# Altium schematic symbol library 常用原件库.SchLib: 53 symbols
Pins are listed as number, name and electrical type; pins without a type are passive.

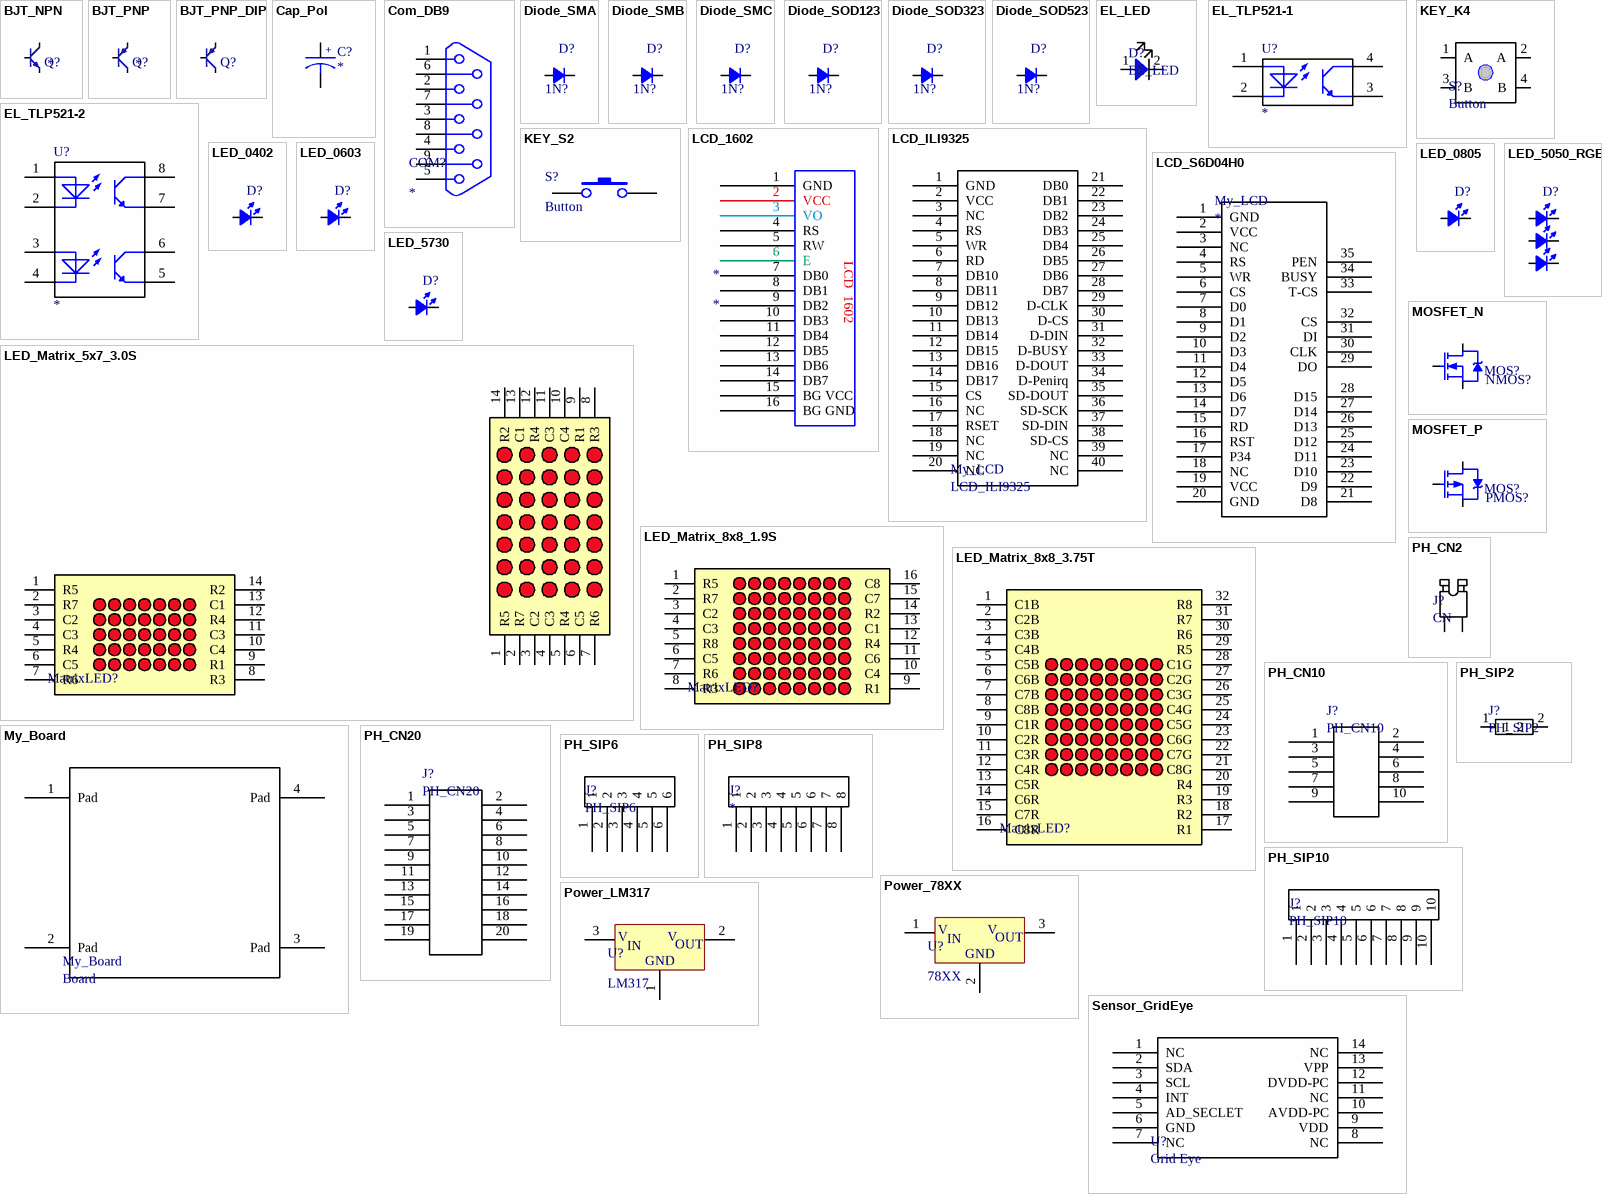
[diagram p0: symbols BJT_NPN to Sensor_GridEye]

## BJT_NPN
designator Q?  (value not drawn)
Transistor; Value: *
footprint SOT23-3
pins: 1 B, 2 E, 3 C

## BJT_PNP
designator Q?  (value not drawn)
Transistor; Value: *
footprint SOT23-3
pins: 1 B, 2 E, 3 C

## BJT_PNP_DIP
designator Q?  (value not drawn)
Transistor
footprint TO-92_HDR
pins: 1 E, 2 B, 3 C

## Cap_Pol
designator C?
Capacitor
footprint Cap_Pol_F5 (Cap F5)
footprint Cap_Pol_F6 (Cap F5)
pins: 1, 2
text: +

## Com_DB9
designator COM?
串口母头
footprint DB9
pins: 1, 2, 3, 4, 5, 6, 7, 8, 9

## Diode_SMA
designator D?  value 1N?  (hidden comment: Diode_SMA)
Diode
footprint DIODE_DO-214AC (SMA)
pins: 1 A, 2 K

## Diode_SMB
designator D?  value 1N?  (hidden comment: Diode_SMB)
Diode
footprint DIODE_DO-214AA (SMB)
pins: 1 A, 2 K

## Diode_SMC
designator D?  value 1N?  (hidden comment: Diode_SMC)
Diode
footprint DIODE_DO-214AB (SMC)
pins: 1 A, 2 K

## Diode_SOD123
designator D?  value 1N?  (hidden comment: Diode_SOD123)
Diode
pins: 1 A, 2 K

## Diode_SOD323
designator D?  value 1N?  (hidden comment: Diode_SOD323)
Diode
footprint SOD323 (SOD-323; 2 Leads; Body 1.8 x 1.35 mm, (LxW))
pins: 1 A, 2 K

## Diode_SOD523
designator D?  value 1N?  (hidden comment: Diode_SOD523)
Diode
pins: 1 A, 2 K

## EL_LED
designator D?
LED
footprint LED-F5 (LED F5 草帽灯)
pins: 1 "My Pad", 2 "My Pad"

## EL_TLP521-1
designator U?
单路光耦
footprint DIP-4N
pins: 1, 2, 3, 4

## EL_TLP521-2
designator U?
双路光耦
footprint DIP-8N
pins: 1, 2, 3, 4, 5, 6, 7, 8

## KEY_K4
designator S?, comment Button
四脚按键
footprint My_Button (My Botton 4 pins)
pins: 1 A "My Pad", 2 A "My Pad", 3 B "My Pad", 4 B "My Pad"

## KEY_S2
designator S?, comment Button
二脚按键
pins: 1, 2

## LCD_1602
designator *
footprint 1602LCD (LCD module 16*2 char)
pins: 1 GND, 2 VCC, 3 VO, 4 RS, 5 RW, 6 E, 7 DB0, 8 DB1, 9 DB2, 10 DB3, 11 DB4, 12 DB5, 13 DB6, 14 DB7, 15 BG VCC, 16 BG GND
text: LCD  1602

## LCD_ILI9325
designator My_LCD
LCD ILI9325
footprint ILI9325 (My  ILI9325 LCD module)
pins: 1 GND "My Pad", 2 VCC "My Pad", 3 NC "My Pad", 4 RS "My Pad", 5 WR "My Pad", 6 RD "My Pad", 7 DB10 "My Pad", 8 DB11 "My Pad", 9 DB12 "My Pad", 10 DB13 "My Pad", 11 DB14 "My Pad", 12 DB15 "My Pad", 13 DB16 "My Pad", 14 DB17 "My Pad", 15 CS "My Pad", 16 NC "My Pad", 17 RSET "My Pad", 18 NC "My Pad", 19 NC "My Pad", 20 NC "My Pad", 21 DB0 "My Pad", 22 DB1 "My Pad", 23 DB2 "My Pad", 24 DB3 "My Pad", 25 DB4 "My Pad", 26 DB5 "My Pad", 27 DB6 "My Pad", 28 DB7 "My Pad", 29 D-CLK "My Pad", 30 D-CS "My Pad", 31 D-DIN "My Pad", 32 D-BUSY "My Pad", 33 D-DOUT "My Pad", 34 D-Penirq "My Pad", 35 SD-DOUT "My Pad", 36 SD-SCK "My Pad", 37 SD-DIN "My Pad", 38 SD-CS "My Pad", 39 NC "My Pad", 40 NC "My Pad"

## LCD_S6D04H0
designator My_LCD
LCD SD6404H0 module
footprint S6D04H0 (My S6D04H0 Module)
pins: 1 GND "My Pad", 2 VCC "My Pad", 3 NC "My Pad", 4 RS "My Pad", 5 WR "My Pad", 6 CS "My Pad", 7 D0 "My Pad", 8 D1 "My Pad", 9 D2 "My Pad", 10 D3 "My Pad", 11 D4 "My Pad", 12 D5 "My Pad", 13 D6 "My Pad", 14 D7 "My Pad", 15 RD "My Pad", 16 RST "My Pad", 17 P34 "My Pad", 18 NC "My Pad", 19 VCC "My Pad", 20 GND "My Pad", 21 D8 "My Pad", 22 D9 "My Pad", 23 D10 "My Pad", 24 D11 "My Pad", 25 D12 "My Pad", 26 D13 "My Pad", 27 D14 "My Pad", 28 D15 "My Pad", 29 DO "My Pad", 30 CLK "My Pad", 31 DI "My Pad", 32 CS "My Pad", 33 T-CS "My Pad", 34 BUSY "My Pad", 35 PEN "My Pad"

## LED_0402
designator D?  (value not drawn)
LED
footprint LED_0402_RED
footprint LED_0402_BLUE
footprint LED_0402_ORANGE
footprint LED_0402_YELLOW
footprint LED_0402_GREEN
pins: 1 A, 2 K

## LED_0603
designator D?  (value not drawn)
LED
footprint LED_0603_GREEN
footprint LED_0603_BLUE
footprint LED_0603_RED
footprint LED_0603_ORANGE
footprint LED_0603_YELLOW
pins: 1 A, 2 K

## LED_0805
designator D?  (value not drawn)
LED
footprint LED_0805_GREEN
footprint LED_0805_BLUE
footprint LED_0805_RED
footprint LED_0805_ORANGE
footprint LED_0805_YELLOW
pins: 1 A, 2 K

## LED_5050_RGB
designator D?  (value not drawn)
LED
footprint LED_5050_RGB
pins: 1 K, 2 K, 3 K, 4 A, 5 A, 6 A

## LED_5730
designator D?  (value not drawn)
LED
footprint LED_5730_WHITE
pins: 1 A, 2 K

## LED_Matrix_5x7_3.0S
designator MatrixLED?  (value not drawn)
MatrixLED
footprint LED_Matrix_5x7_3.0S
pins: 1 R5, 1 R5, 2 R7, 2 R7, 3 C2, 3 C2, 4 C3, 4 C3, 5 R4, 5 R4, 6 C5, 6 C5, 7 R6, 7 R6, 8 R3, 8 R3, 9 R1, 9 R1, 10 C4, 10 C4, 11 C3, 11 C3, 12 R4, 12 R4, 13 C1, 13 C1, 14 R2, 14 R2

## LED_Matrix_8x8_1.9S
designator MatrixLED?  (value not drawn)
MatrixLED
footprint LED_Matrix_8x8_1.9S (Footprint not found)
pins: 1 R5, 2 R7, 3 C2, 4 C3, 5 R8, 6 C5, 7 R6, 8 R3, 9 R1, 10 C4, 11 C6, 12 R4, 13 C1, 14 R2, 15 C7, 16 C8

## LED_Matrix_8x8_3.75T
designator MatrixLED?  (value not drawn)
MatrixLED
footprint LED_Matrix_8x8_3.75T
pins: 1 C1B, 2 C2B, 3 C3B, 4 C4B, 5 C5B, 6 C6B, 7 C7B, 8 C8B, 9 C1R, 10 C2R, 11 C3R, 12 C4R, 13 C5R, 14 C6R, 15 C7R, 16 C8R, 17 R1, 18 R2, 19 R3, 20 R4, 21 C8G, 22 C7G, 23 C6G, 24 C5G, 25 C4G, 26 C3G, 27 C2G, 28 C1G, 29 R5, 30 R6, 31 R7, 32 R8

## MOSFET_N
designator MOS?  value NMOS?  (hidden comment: MOSFET_N)
MOSFET
footprint TO-252AA
pins: 1 G, 3 S, 4 D

## MOSFET_P
designator MOS?  value PMOS?  (hidden comment: MOSFET_P)
MOSFET
footprint TO-252AA
pins: 1 G, 2 D, 3 S

## My_Board
designator My_Board, comment Board
My Board
footprint My_Board_9_15 (9*15cm board)
footprint My_Board_5_7 (baord 5x7cm)
footprint MY_BOARD_6_6 (My Boaed 6 x 6 cm)
pins: 1 Pad "My Pad", 2 Pad "My Pad", 3 Pad "My Pad", 4 Pad "My Pad"

## PH_CN2
designator J?, comment CN
跳帽
footprint CN2 (Header 2 X 1)
pins: 1 "My Pad", 2 "My Pad"

## PH_CN10
designator J?
5 X 2
footprint CN10 (Header 5 X 2)
pins: 1 "My Pad", 2 "My Pad", 3 "My Pad", 4 "My Pad", 5 "My Pad", 6 "My Pad", 7 "My Pad", 8 "My Pad", 9 "My Pad", 10 "My Pad"

## PH_CN20
designator J?
10 X 2
footprint CN20
pins: 1 "My Pad", 2 "My Pad", 3 "My Pad", 4 "My Pad", 5 "My Pad", 6 "My Pad", 7 "My Pad", 8 "My Pad", 9 "My Pad", 10 "My Pad", 11 "My Pad", 12 "My Pad", 13 "My Pad", 14 "My Pad", 15 "My Pad", 16 "My Pad", 17 "My Pad", 18 "My Pad", 19 "My Pad", 20 "My Pad"

## PH_SIP2
designator J?
SIP2
footprint SIP2
pins: 1 "My Pad", 2 "My Pad"

## PH_SIP6
designator J?
SIP6
footprint SIP6
pins: 1 "My Pad", 2 "My Pad", 3 "My Pad", 4 "My Pad", 5 "My Pad", 6 "My Pad"

## PH_SIP8
designator J?
SIP8
footprint SIP8
pins: 1 "My Pad", 2 "My Pad", 3 "My Pad", 4 "My Pad", 5 "My Pad", 6 "My Pad", 7 "My Pad", 8 "My Pad"

## PH_SIP10
designator J?
SIP10
footprint SIP10
pins: 1 "My Pad", 2 "My Pad", 3 "My Pad", 4 "My Pad", 5 "My Pad", 6 "My Pad", 7 "My Pad", 8 "My Pad", 9 "My Pad", 10 "My Pad"

## Power_78XX
designator U?, comment 78XX
78XX 系列稳压芯片
footprint 78XX (78 系列的稳压片)
footprint TO-220
pins: 1 VIN, 2 GND, 3 VOUT
text: V; IN; OUT

## Power_LM317
designator U?, comment LM317
LM317 电源芯片
footprint 78XX (78 系列的稳压片)
footprint TO-220
footprint lm1117
pins: 1 GND, 2 VOUT, 3 VIN
text: V; IN; OUT

## Sensor_GridEye
designator U?, comment Grid Eye
红外阵列传感器
footprint Grid_Eye_Sensor (Grid Eye Sensor)
pins: 1 NC "My Pad", 2 SDA "My Pad", 3 SCL "My Pad", 4 INT "My Pad", 5 AD_SECLET "My Pad", 6 GND "My Pad", 7 NC "My Pad", 8 NC "My Pad", 9 VDD "My Pad", 10 AVDD-PC "My Pad", 11 NC "My Pad", 12 DVDD-PC "My Pad", 13 VPP "My Pad", 14 NC "My Pad"

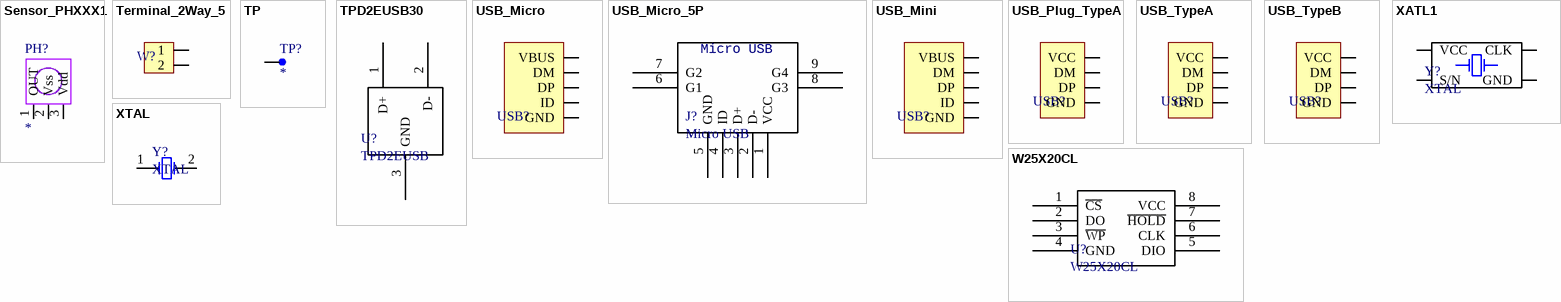
[diagram p1: symbols Sensor_PHXXX1 to XTAL]

## Sensor_PHXXX1
designator PH?
湿度传感器
footprint TO-220
pins: 1 OUT, 2 Vss, 3 Vdd

## Terminal_2Way_5
designator W?  (value not drawn)
DB
footprint 2Way_5
pins: 1, 2

## TP
designator TP?
footprint TEST (TEST Pad)
pins: 1

## TPD2EUSB30
designator U?, comment TPD2EUSB
TPD2EUSB30
footprint TPDEUSB30
pins: 1 D+ "My Pad", 2 D- "My Pad", 3 GND "My Pad"

## USB_Micro
designator USB?  (value not drawn)
USB
footprint USB_Micro-AB
footprint USB_Micro-B
pins: 1 VBUS, 2 DM, 3 DP, 4 ID, 5 GND

## USB_Micro_5P
designator J?, comment Micro USB
Micro USB 5P
footprint Micro USB (Micro USB 5p)
pins: 1 VCC "My Pad", 2 D- "My Pad", 3 D+ "My Pad", 4 ID "My Pad", 5 GND "My Pad", 6 G1 "My Pad", 7 G2 "My Pad", 8 G3 "My Pad", 9 G4 "My Pad"

## USB_Mini
designator USB?  (value not drawn)
USB
footprint USB_MINI-B
pins: 1 VBUS, 2 DM, 3 DP, 4 ID, 5 GND

## USB_Plug_TypeA
designator USB?  (value not drawn)
USB
footprint USB_Plug_TypeA_PCB
footprint USB_Plug_TypeA
pins: 1 VCC, 2 DM, 3 DP, 4 GND

## USB_TypeA
designator USB?  (value not drawn)
USB
footprint USB_TypeA
pins: 1 VCC, 2 DM, 3 DP, 4 GND

## USB_TypeB
designator USB?  (value not drawn)
USB
footprint USB_TypeB
pins: 1 VCC, 2 DM, 3 DP, 4 GND

## W25X20CL
designator U?
footprint SOP8
pins: 1 ~{CS} "My Pad", 2 DO "My Pad", 3 ~{WP} "My Pad", 4 GND "My Pad", 5 DIO "My Pad", 6 CLK "My Pad", 7 ~{HOLD} "My Pad", 8 VCC "My Pad"

## XATL1
designator Y?, comment XTAL
footprint xtal1 (XTAL1)
pins: 1 S/N, 2 GND, 3 CLK, 4 VCC

## XTAL
designator Y?
footprint XTAL
pins: 1, 2